# EAGLE library part CS5480 (library OpenMotics)
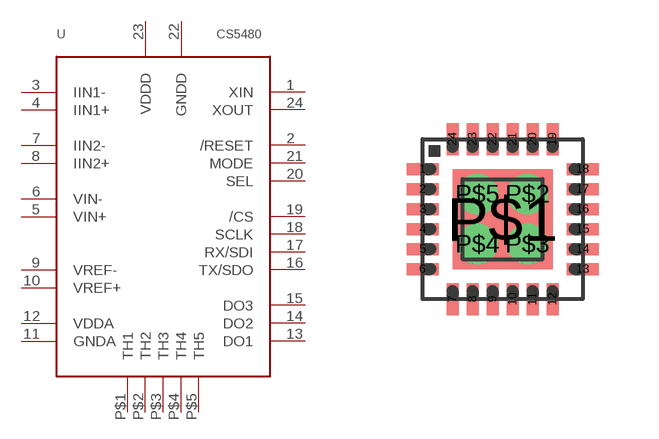
[diagram p26: symbol with the pads of QFN24; footprint QFN24]

Designator prefix U

## CS5480  [QFN24]
1  XIN
2  /RESET
3  IIN1-
4  IIN1+
5  VIN+
6  VIN-
7  IIN2-
8  IIN2+
9  VREF-
10  VREF+
11  GNDA
12  VDDA
13  DO1
14  DO2
15  DO3
16  TX/SDO
17  RX/SDI
18  SCLK
19  /CS
20  SEL
21  MODE
22  GNDD
23  VDDD
24  XOUT
P$1  TH1
P$2  TH2
P$3  TH3
P$4  TH4
P$5  TH5

## Footprint QFN24 (pad centres in mm)
smd 0.8 x 0.3: 1 -2,1.25; 2 -2,0.75; 3 -2,0.25; 4 -2,-0.25; 5 -2,-0.75; 6 -2,-1.25; 13 2,-1.25; 14 2,-0.75; 15 2,-0.25; 16 2,0.25; 17 2,0.75; 18 2,1.25
smd 0.3 x 0.8: 7 -1.25,-2; 8 -0.75,-2; 9 -0.25,-2; 10 0.25,-2; 11 0.75,-2; 12 1.25,-2; 19 1.25,2; 20 0.75,2; 21 0.25,2; 22 -0.25,2; 23 -0.75,2; 24 -1.25,2
smd 2.5 x 2.5: P$1 0,0
drill 0.5 round: P$2 0.625,0.625; P$3 0.625,-0.625; P$4 -0.625,-0.625; P$5 -0.625,0.625